# Altium schematic symbol library Arturo_Approved.SchLib: 108 symbols
Pins are listed as number, name and electrical type; pins without a type are passive.

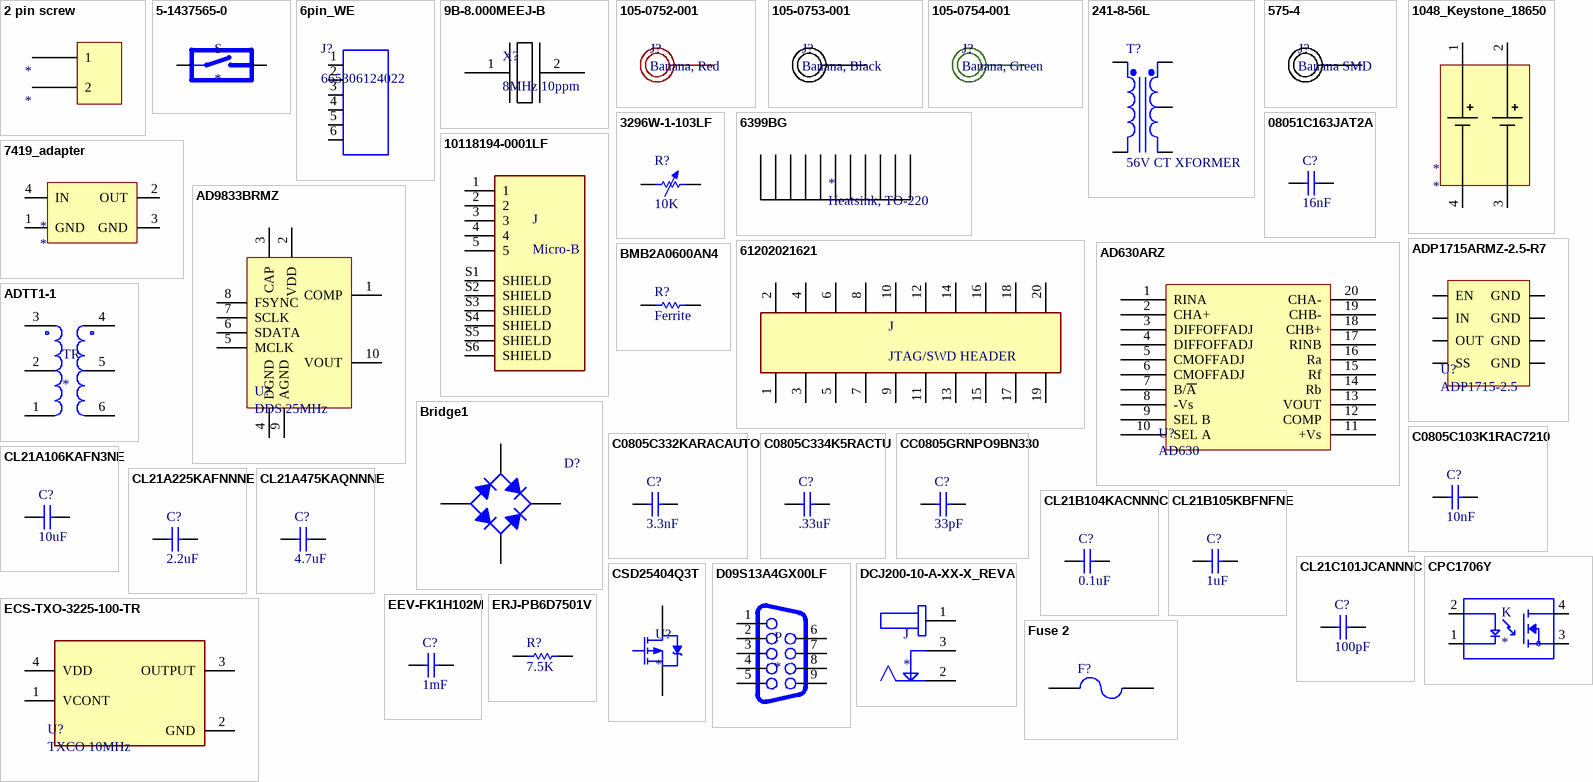
[diagram p0: symbols 2 pin screw to Fuse 2]

## 2 pin screw
designator *
footprint CUI_TB003-500-P02BE
pins: 1, 2

## 5-1437565-0
designator S
Switch Push Button N.O. SPST Round Button 0.05A 12VDC 1VA Alternate Contact Gull Wing SMD T/R; MP: FSM6JSMATR; MF: TE Connectivity; SnapEDA_Link: https://www.snapeda.com/parts/FSM6JSMATR/TE%20Connectivity%20ALCOSWITCH%20Switches/view-part/518064/?ref=snap; Price: None; TE_purchase_URL: https://www.te.com/usa-en/product-5-1437565-0.html?te_bu=Cor&te_type=disp&te_campaign=seda_glo_cor-seda-global-disp-prtnr-fy19-seda-model-bom-cta_sma-317_1&elqCampaignId=32493; Value: *; Availability: Unavailable; Package: None
footprint SW_5-1437565-0
pins: 1 2, 2, 3 1, 4 1

## 6pin_WE
designator J?, comment 665306124022
Connector Header Surface Mount 6 position 0.039 (1.00mm); MF: WÃ¼rth Elektronik; Check_prices: https://www.snapeda.com/parts/665306124022/W%C3%BCrth%20Elektronik/view-part/1276936/?ref=eda; Price: None; Value: *; Availability: Warning; Package: None; Purchase-URL: https://pricing.snapeda.com/search/part/665306124022/?ref=eda; MP: 665306124022; SnapEDA_Link: https://www.snapeda.com/parts/665306124022/W%C3%BCrth%20Elektronik/view-part/1276936/?ref=snap
footprint 665306124022
pins: 1, 2, 3, 4, 5, 6

## 9B-8.000MEEJ-B
designator X?, comment 8MHz 10ppm
pins: 1, 2

## 105-0752-001
designator J?, comment Banana, Red
Red Banana Plug; MFGPN: 105-0752-001
footprint 105-0752-001 (BANANA CONN RED)
pins: 1 0

## 105-0753-001
designator J?, comment Banana, Black
Black Banana Plug; MFGPN: 105-0753-001
footprint 105-0753-001 (BANANA CONN BLACK)
pins: 1 0

## 105-0754-001
designator J?, comment Banana, Green
Green Banana Plug; MFGPN: 105-0754-001
footprint 105-0754-001 (BANANA CONN GREEN)
pins: 1 0

## 241-8-56L
designator T?, comment 56V CT XFORMER
Center-Tapped Transformer (Coupled Inductor Model); Published: 8-Jun-2000; LatestRevisionDate: 17-Jul-2002; LatestRevisionNote: Re-released for DXP Platform.; PackageReference: TRF_5; Publisher: Altium Limited; PackageDescription: Transformer; 5 Leads
footprint TRF_5 (Transformer; 5 Leads)
simulation model TRANSFORMER (Transformer)
pins: 1 Pri+, 2 Pri-, 3 Sec+, 4 SecCT, 5 Sec-

## 575-4
designator J?, comment Banana SMD
Banana Plug SMD; MFGPN: 575-4
footprint 575-4
pins: 1 0

## 1048_Keystone_18650
designator *
pins: 1, 2, 3, 4

## 3296W-1-103LF
designator R?, comment 10K
Variable Resistor; MFGPN: 3296W-1-103LF
footprint TRIMRES
pins: 1, 2

## 6399BG
designator *, comment Heatsink, TO-220
Heavy duty heatsink; MFGPN: 6399BG

## 7419_adapter
designator *
footprint 7149_adapter
pins: 1 GND, 2 OUT, 3 GND, 4 IN

## 08051C163JAT2A
designator C?, comment 16nF
Capacitor, 16nF, 0805, 25V; MFGPN: 08051C163JAT2A; Value: 16nF
footprint STD_0805_C
pins: 1, 2

## 10118194-0001LF
designator J, comment Micro-B
USB - micro B USB 2.0 Receptacle Connector 5 Position Surface Mount, Right Angle; Through Hole; MFGPN: 10118194-0001LF
footprint 10118194-0001LF
pins: 1, 2, 3, 4, 5, S1 SHIELD, S2 SHIELD, S3 SHIELD, S4 SHIELD, S5 SHIELD, S6 SHIELD

## 61202021621
designator J, comment JTAG/SWD HEADER
Connector Header Through Hole 20 position 0.100 _2.54mm_; MF: Wurth Electronics; MP: 61202021621; Package: None; Price: None; SnapEDA_Link: https://www.snapeda.com/parts/61202021621/Wurth%20Electronics%20Inc./view-part/1356763/?ref=snap; Availability: Unavailable; Value: *
footprint 61202021621
pins: 1, 2, 3, 4, 5, 6, 7, 8, 9, 10, 11, 12, 13, 14, 15, 16, 17, 18, 19, 20

## AD630ARZ
designator U?, comment AD630
RF MOD/DEMOD
footprint SOIC_20
pins: 1 RINA, 2 CHA+, 3 DIFFOFFADJ, 4 DIFFOFFADJ, 5 CMOFFADJ, 6 CMOFFADJ, 7 B/~{A}, 8 -Vs, 9 SEL B, 10 SEL A, 11 +Vs, 12 COMP, 13 VOUT, 14 Rb, 15 Rf, 16 Ra, 17 RINB, 18 CHB+, 19 CHB-, 20 CHA-

## AD9833BRMZ
designator U?, comment DDS 25MHz
25MHz 10bit DDS; MFGPN: AD9833BRMZ
footprint MSOP_10
pins: 1 COMP, 2 VDD, 3 CAP, 4 DGND, 5 MCLK, 6 SDATA, 7 SCLK, 8 FSYNC, 9 AGND, 10 VOUT

## ADP1715ARMZ-2.5-R7
designator U?, comment ADP1715-2.5
2.5V linear regulator; MFGPN: ADP1715ARMZ-2.5-R7
footprint MSOP_8
pins: 1 EN, 2 IN, 3 OUT, 4 SS, 5 GND, 6 GND, 7 GND, 8 GND

## ADTT1-1
designator TR
Xfmr, Isolation, 50 ohm, 1: 1, 0.3-300 MHz, SMT; MP: ADTT1-1+; MF: Mini-Circuits; Package: None; Availability: Unavailable; SnapEDA_Link: https://www.snapeda.com/parts/ADTT1-1%2B/Mini-Circuits/view-part/923578/?ref=snap; Price: None; Value: *
footprint ADTT
pins: 1 PRI-, 2 PRI0, 3 PRI+, 4 SEC+, 5 SEC0, 6 SEC-

## BMB2A0600AN4
designator R?, comment Ferrite
Ferrite 0805; MFGPN: BMB2A0600AN4
footprint STD_0805_R
pins: 1, 2

## Bridge1
designator D?
Full Wave Diode Bridge; Published: 8-Jun-2000; LatestRevisionDate: 29-May-2009; LatestRevisionNote: Sch pins A & K swapped.; DatasheetVersion: E2732B; PackageReference: D-38; Publisher: Altium Limited; PackageDescription: Bridge Rectifier; 4 Terminals; Body 9.4 x 9.4 mm (typ); Pitch 5.08 mm
footprint D-38 (Bridge Rectifier; 4 Terminals; Body 9.4 x 9.4 mm (typ); Pitch 5.08 mm)
simulation model BRIDGE (Spice Subcircuit)
pins: 1 K, 2 C, 3 C, 4 A

## C0805C103K1RAC7210
designator C?, comment 10nF
Capacitor, 10nF, 0805; Value: .01uf; MFGPN: C0805C103K1RAC7210
footprint STD_0805_C
pins: 1, 2

## C0805C332KARACAUTO
designator C?, comment 3.3nF
Capacitor, 3.3nF, 0805; Value: .01uf; MFGPN: C0805C332KARACAUTO
footprint STD_0805_C
pins: 1, 2

## C0805C334K5RACTU
designator C?, comment .33uF
Capacitor, .33uF, 0805; MFGPN: C0805C334K5RACTU; Value: .33uF
footprint STD_0805_C
pins: 1, 2

## CC0805GRNPO9BN330
designator C?, comment 33pF
Capacitor, 33pF, 0805; Value: .01uf; MFGPN: CC0805GRNPO9BN330
footprint STD_0805_C
pins: 1, 2

## CL21A106KAFN3NE
designator C?, comment 10uF
Capacitor, 10uF, 0805; Value: .01uf; MFGPN: CL21A106KAFN3NE
footprint STD_0805_C
pins: 1, 2

## CL21A225KAFNNNE
designator C?, comment 2.2uF
Capacitor, 2.2uF, 0805; Value: .01uf; MFGPN: CL21A225KAFNNNE
footprint STD_0805_C
pins: 1, 2

## CL21A475KAQNNNE
designator C?, comment 4.7uF
Capacitor, 4.7uF, 0805; Value: .01uf; MFGPN: CL21A475KAQNNNE
footprint STD_0805_C
pins: 1, 2

## CL21B104KACNNNC
designator C?, comment 0.1uF
Capacitor, 0.1uF, 0805; Value: .01uf; MFGPN: CL21B104KACNNNC
footprint STD_0805_C
pins: 1, 2

## CL21B105KBFNFNE
designator C?, comment 1uF
Capacitor, 1uF, 0805; Value: .01uf; MFGPN: CL21B105KBFNFNE
footprint STD_0805_C
pins: 1, 2

## CL21C101JCANNNC
designator C?, comment 100pF
Capacitor, 100pF, 0805; Value: .01uf; MFGPN: CL21C101JCANNNC
footprint STD_0805_C
pins: 1, 2

## CPC1706Y
designator K
Solid State SPST-NO _1 Form A_ 8-SIP, 4 Leads; MP: CPC1706Y; MF: IXYS Integrated; Value: *; Package: SIP-4 IXYS; SnapEDA_Link: https://www.snapeda.com/parts/CPC1706Y/IXYS%20Integrated%20Circuits%20Division/view-part/681572/?ref=snap; Price: None; Availability: Unavailable
footprint RELAY_CPC1706Y
pins: 1, 2, 3, 4

## CSD25404Q3T
designator U?
-20V, P ch NexFET MOSFET, single SON 3x3, 6.5mOhm 8-VSON-CLIP -55 to 150; MF: Texas Instruments; MP: CSD25404Q3T; Purchase-URL: https://pricing.snapeda.com/search/part/CSD25404Q3T/?ref=eda; Package: VSON-CLIP-8 Texas Instruments; Value: *; Check_prices: https://www.snapeda.com/parts/CSD25404Q3T/Texas%20Instruments/view-part/808596/?ref=eda; SnapEDA_Link: https://www.snapeda.com/parts/CSD25404Q3T/Texas%20Instruments/view-part/808596/?ref=snap; Availability: Warning; Price: None
footprint TRANS_CSD17308Q3
pins: 1 D, 3 S

## D09S13A4GX00LF
designator P
9 Position D-Sub Receptacle, Female Sockets Connector; MP: D09S13A4GX00LF; MF: Amphenol ICC; Package: None; Price: None; Availability: Unavailable; Value: *; SnapEDA_Link: https://www.snapeda.com/parts/D09S13A4GX00LF/Amphenol%20FCI/view-part/488908/?ref=snap
footprint DB9 Right Angle
pins: 1, 2, 3, 4, 5, 6, 7, 8, 9

## DCJ200-10-A-XX-X_REVA
designator J
Power Barrel Connector Jack 2.05mm ID _0.081_, 5.50mm OD _0.217_ Through Hole, Right Angle; MP: DCJ200-10-A-K1-K; MF: Global Connector Technology; Package: None; Availability: Unavailable; Value: *; SnapEDA_Link: https://www.snapeda.com/parts/DCJ200-10-A-K1-K/Global%20Connector%20Technology/view-part/641259/?ref=snap; Price: None
footprint GCT_DCJ200-10-A-XX-X_REVA
pins: 1, 2, 3

## ECS-TXO-3225-100-TR
designator U?, comment TXCO 10MHz
10 Mhz osc; MFGPN: ECS-TXO-3225-100-TR
footprint OSC_ECS-TXO-3225-100-TR
pins: 1 VCONT, 2 GND (power), 3 OUTPUT, 4 VDD

## EEV-FK1H102M
designator C?, comment 1mF
Capacitor, 1mF 50V; Value: .01uf; MFGPN: CL21C101JCANNNC
footprint EEVFK1V152M
pins: 1, 2

## ERJ-PB6D7501V
designator R?, comment 7.5K
7.5K 1% 1/4W; Value: 1K; MFGPN: ERJ-PB6D7501V
footprint STD_0805_R
pins: 1, 2

## Fuse 2
designator F?
Fuse; Published: 8-Jun-2000; LatestRevisionDate: 17-Jul-2002; LatestRevisionNote: Re-released for DXP Platform.; PackageReference: PIN-W2/E2.8; Publisher: Altium Limited; PackageDescription: Thru-Hole; 2 Leads
footprint PIN-W2/E2.8 (Thru-Hole; 2 Leads)
simulation model FUSE (Spice Subcircuit)
pins: 1, 2

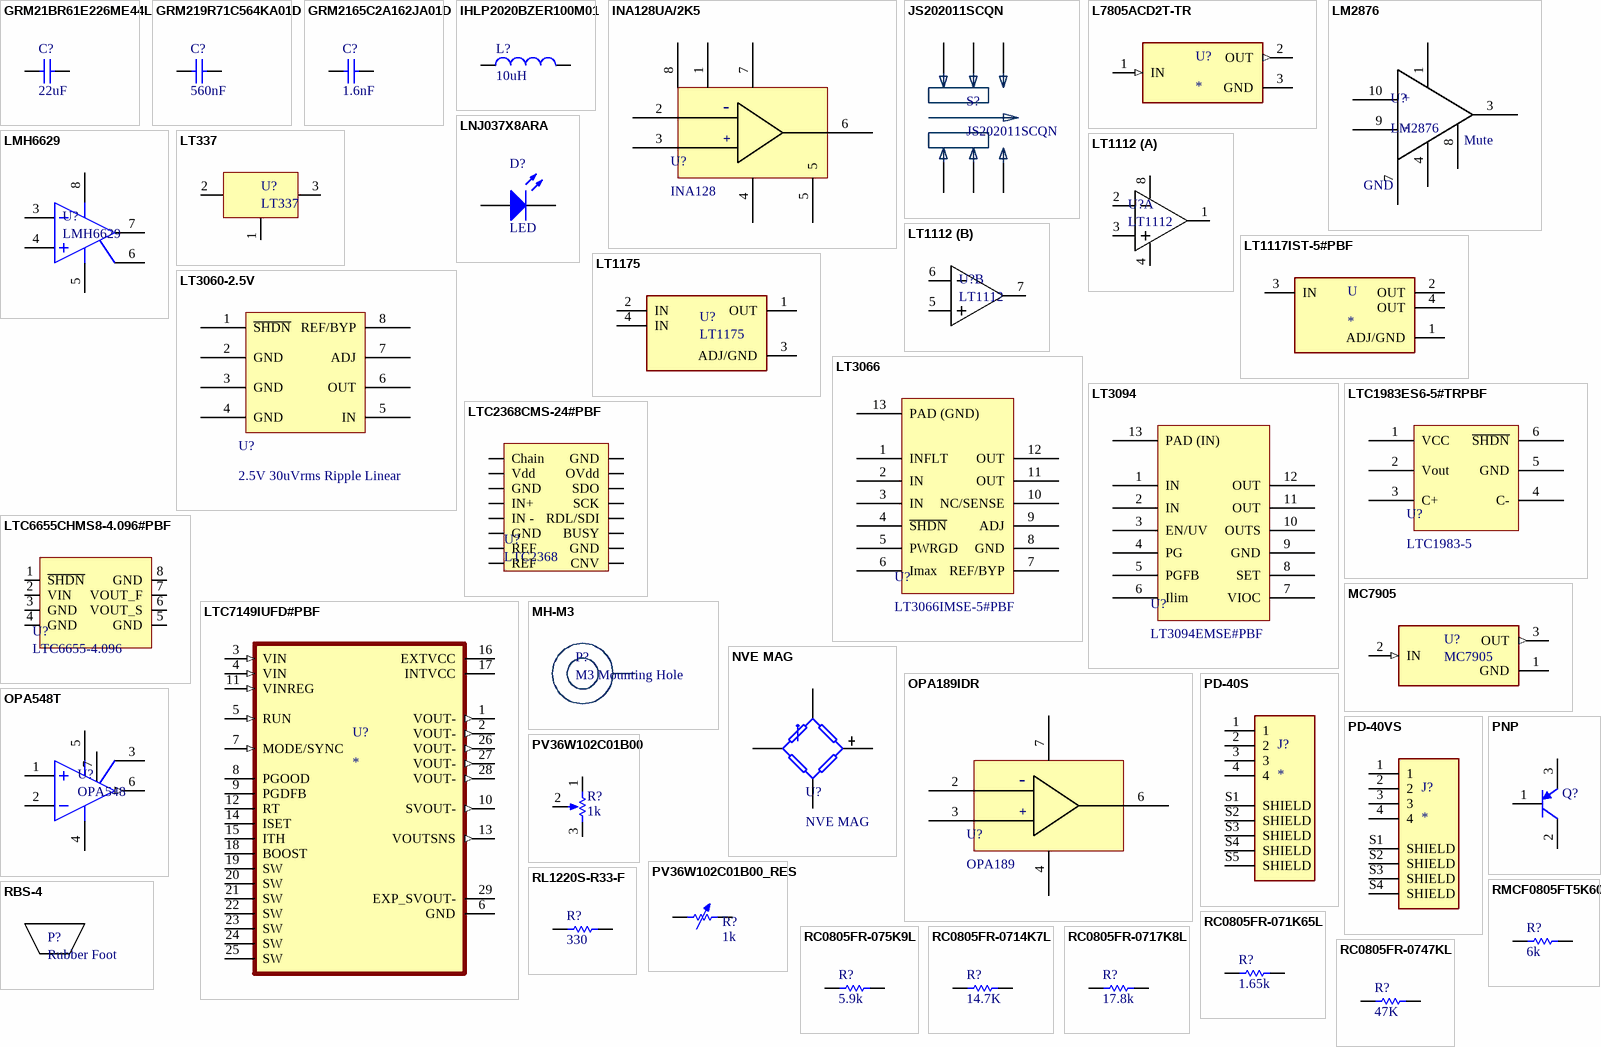
[diagram p1: symbols GRM21BR61E226ME44L to RMCF0805FT5K60]

## GRM21BR61E226ME44L
designator C?, comment 22uF
Capacitor, 22uF, 0805, 25V; Value: .01uf; MFGPN: GRM21BR61E226ME44L
footprint STD_0805_C
pins: 1, 2

## GRM219R71C564KA01D
designator C?, comment 560nF
Capacitor, 560nF, 0805, 25V; MFGPN: GRM219R71C564KA01D; Value: 560nF
footprint STD_0805_C
pins: 1, 2

## GRM2165C2A162JA01D
designator C?, comment 1.6nF
Capacitor, 1.6nF, 0805, 25V; MFGPN: GRM2165C2A162JA01D; Value: 1.6nF
footprint STD_0805_C
pins: 1, 2

## IHLP2020BZER100M01
designator L?, comment 10uH
Inductor 10uH VISHAY; MFGPN: IHLP2020BZER100M01
footprint IHLP2020BZER100M01
pins: 1, 2

## INA128UA/2K5
designator U?, comment INA128
Instrumentation Amp, Generic; MFGPN: INA128UA/2K5
footprint SOIC_8
pins: 1 Gain, 2, 3, 4, 5, 6, 7, 8 Gain
text: -; +

## JS202011SCQN
designator S?
Slide Switch DPDT Surface Mount; MF: C&K; MFGPN: JS202011SCQN; Value: *; Package: None; SnapEDA_Link: https://www.snapeda.com/parts/JS202011SCQN/C%26K/view-part/592122/?ref=snap; Digi-Key_Part_Number: 401-2002-1-ND; Digi-Key_Purchase_URL: https://www.digikey.com/product-detail/en/c-k/JS202011SCQN/401-2002-1-ND/1640098?utm_source=snapeda&utm_medium=aggregator&utm_campaign=symbol
footprint SW_JS202011SCQN
pins: 1, 2, 3, 4, 5, 6

## L7805ACD2T-TR
designator U?
Linear Voltage Regulator IC 1 Output 1.5A D2PAK; MP: L7805ACD2T-TR; MF: STMicroelectronics; Price: None; Purchase-URL: https://pricing.snapeda.com/search/part/L7805ACD2T-TR/?ref=eda; Package: D2PAK STMicroelectronics; Check_prices: https://www.snapeda.com/parts/L7805ACD2T-TR/STMicroelectronics/view-part/104395/?ref=eda; SnapEDA_Link: https://www.snapeda.com/parts/L7805ACD2T-TR/STMicroelectronics/view-part/104395/?ref=snap; Value: *; Availability: Good
footprint TO254P1515X470-3N
pins: 1 IN (in), 2 OUT (out), 3 GND (power)

## LM2876
designator U?
pins: 1 GND, 3 GND, 4 GND, 7 GND, 8 GND, 9 GND, 10 GND
text: +; -; Mute

## LMH6629
designator U?
footprint LMH6629
simulation model LMH6629 (Model Description)
pins: 3 IN-, 4 IN+, 5 V- (power), 6 TAB, 7 OUT, 8 V+ (power)

## LNJ037X8ARA
designator D?, comment LED
Typical LED; MFGPN: LNJ037X8ARA
footprint STD_LED
pins: 1, 2

## LT337
designator U?
pins: 1, 2, 3

## LT1112
designator U?
part A pins: 1, 2, 3, 4, 8
part B pins: 5, 6, 7

## LT1117IST-5#PBF
designator U
LDO Regulator Pos 5V 0.8A Automotive 4-Pin_3+Tab_ SOT-223 Tube; MP: LT1117IST-5#PBF; MF: Analog Devices; Value: *; Availability: Unavailable; Price: None; Package: SOT-223-3 Analog Devices; SnapEDA_Link: https://www.snapeda.com/parts/LT1117IST-5%23PBF/Analog%20Devices/view-part/4348177/?ref=snap
footprint REG_LT1117IST-5#PBF
pins: 1 ADJ/GND (power), 2 OUT, 3 IN, 4 OUT

## LT1175
designator U?
footprint REG_LT1117IST-5#PBF
pins: 1 OUT, 2 IN, 3 ADJ/GND (power), 4 IN

## LT3060-2.5V
designator U?, comment 2.5V 30uVrms Ripple Linear
Low nloise linear regulator
pins: 1 ~{SHDN}, 2 GND, 3 GND, 4 GND, 5 IN, 6 OUT, 7 ADJ, 8 REF/BYP

## LT3066
designator U?, comment LT3066IMSE-5#PBF
5V VIN, 500mA Low Noise, / Linear Regulator with Programmable / Current Limit; MFGPN: LT3066IMSE-5#PBF
pins: 1 INFLT, 2 IN, 3 IN, 4 ~{SHDN}, 5 PWRGD, 6 Imax, 7 REF/BYP, 8 GND, 9 ADJ, 10 NC/SENSE, 11 OUT, 12 OUT, 13 PAD (GND)

## LT3094
designator U?, comment LT3094EMSE#PBF
Linear Regulator; MFGPN: LT3094EMSE#PBF
pins: 1 IN, 2 IN, 3 EN/UV, 4 PG, 5 PGFB, 6 Ilim, 7 VIOC, 8 SET, 9 GND, 10 OUTS, 11 OUT, 12 OUT, 13 PAD (IN)

## LTC1983ES6-5#TRPBF
designator U?, comment LTC1983-5
-5V, DC-DC Converter; MFGPN: LTC1983ES6-5#TRPBF
footprint SOT23-6_M (SOT23, 6-Leads, Body 2.9x1.6mm, Pitch 0.95mm, Lead Span 2.7mm, IPC Low Density)
pins: 1 VCC, 2 Vout, 3 C+, 4 C-, 5 GND, 6 ~{SHDN}

## LTC2368CMS-24#PBF
designator U?, comment LTC2368
24 Bit ADC 1Msps; MFGPN: LTC2368CMS-24#PBF
footprint MSOP_16
pins: 1 Chain, 2 Vdd, 3 GND, 4 IN+, 5 IN -, 6 GND, 7 REF, 8 REF, 9 CNV, 10 GND, 11 BUSY, 12 RDL/SDI, 13 SCK, 14 SDO, 15 OVdd, 16 GND

## LTC6655CHMS8-4.096#PBF
designator U?, comment LTC6655-4.096
Voltage Reference 4.096V; MFGPN: LTC6655CHMS8-4.096#PBF
footprint MSOP_8
pins: 1 ~{SHDN}, 2 VIN, 3 GND, 4 GND, 5 GND, 6 VOUT_S, 7 VOUT_F, 8 GND

## LTC7149IUFD#PBF
designator U?
MP: LTC7149IUFD#PBF; Package: None; Price: None; Value: *; Availability: Unavailable
footprint QFN50P500X400X80-2 (Footprint not found)
footprint QFN50P500X400X80-29N
pins: 1 VOUT- (out), 2 VOUT- (out), 3 VIN (in), 4 VIN (in), 5 RUN (in), 6 GND (power), 7 MODE/SYNC (in), 8 PGOOD, 9 PGDFB, 10 SVOUT- (out), 11 VINREG (in), 12 RT, 13 VOUTSNS (out), 14 ISET, 15 ITH, 16 EXTVCC (power), 17 INTVCC (power), 18 BOOST, 19 SW, 20 SW, 21 SW, 22 SW, 23 SW, 24 SW, 25 SW, 26 VOUT- (out), 27 VOUT- (out), 28 VOUT- (out), 29 EXP_SVOUT- (power)

## MC7905
designator U?
footprint TO254P1515X470-3N
pins: 1 GND (power), 2 IN (in), 3 OUT (out)

## MH-M3
designator P?, comment M3 Mounting Hole
footprint MH-M3
pins: 1

## NVE MAG
designator U?
footprint SOIC_8
pins: 1, 4, 5, 8

## OPA189IDR
designator U?, comment OPA189
Precision OpAmp, Generic; MFGPN: OPA189IDR
footprint SOIC_8
pins: 2, 3, 4, 6, 7
text: -; +

## OPA548T
designator U?, comment OPA548
High power op amp; MFGPN: OPA548T
footprint TO-220-7
pins: 1 IN-, 2 IN+, 3 TAB, 4 V- (power), 5 V+ (power), 6 OUT (out), 7 OS NUL

## PD-40S
designator J?
MP: PD-40S; Package: None; Value: *; Price: None; Availability: Unavailable
footprint CUI_PD-40S
pins: 1, 2, 3, 4, S1 SHIELD, S2 SHIELD, S3 SHIELD, S4 SHIELD, S5 SHIELD

## PD-40VS
designator J?
4 Position , 7.5 A, Vertical, Through Hole, Shielded, Power DIN Connector; MP: PD-40VS; MF: {'manufacturer': u'CUI'}; Package: None; Price: None; Availability: Unavailable; Value: *
footprint CUI_PD-40VS
pins: 1, 2, 3, 4, S1 SHIELD, S2 SHIELD, S3 SHIELD, S4 SHIELD

## PNP
designator Q?
PNP General Purpose Amplifier; Published: 8-Jun-2000; LatestRevisionDate: 15-Jan-2003; LatestRevisionNote: PCB Footprint 'BCY-W3/D4.7' replaced; DatasheetVersion: 1997; PackageVersion: Sep-1998; PackageReference: TO-92A; Publisher: Altium Limited; PackageDescription: TO, Flat Index; 3 In-Line, Axial Leads; Body Dia. 4.5mm; Leads 0.51 x 0.48 mm (max); ComponentLink1Description: Manufacturer Link; ComponentLink1URL: http://www.fairchildsemi.com/; ComponentLink2Description: Datasheet; ComponentLink2URL: http://www.fairchildsemi.com/ds/2N%2F2N3906.pdf
footprint TO-220-3
pins: 1 B, 2 C, 3 E

## PV36W102C01B00
designator R?, comment 1k
Potentiometer, 1k; MFGPN: PV36W102C01B00
footprint TRIMPOT
pins: 1 TOP, 2 TAP, 3 BOT
1 alternate drawing of the same symbol

## PV36W102C01B00_RES
designator R?, comment 1k
Variable resistor 1k; MFGPN: PV36W102C01B00
footprint TRIMRES
pins: 1, 2
1 alternate drawing of the same symbol

## RBS-4
designator P?, comment Rubber Foot
MFGPN: RBS-4

## RC0805FR-071K65L
designator R?, comment 1.65k
MFGPN: RC0805FR-071K65L; Value: 1.65k
footprint STD_0805_R
pins: 1, 2

## RC0805FR-075K9L
designator R?, comment 5.9k
MFGPN: RC0805FR-075K9L; Value: 5.9k
footprint STD_0805_R
pins: 1, 2

## RC0805FR-0714K7L
designator R?, comment 14.7K
14.7K 1% 1/4W; Value: 1K; MFGPN: RC0805FR-0714K7L
footprint STD_0805_R
pins: 1, 2

## RC0805FR-0717K8L
designator R?, comment 17.8k
MFGPN: RC0805FR-0717K8L; Value: 17.8k
footprint STD_0805_R
pins: 1, 2

## RC0805FR-0747KL
designator R?, comment 47K
47K 1% 1/8W; Value: 1K; MFGPN: RC0805FR-0747KL
footprint STD_0805_R
pins: 1, 2

## RL1220S-R33-F
designator R?, comment 330
330 1% 1/3W; Value: 1K; MFGPN: RL1220S-R33-F
footprint STD_0805_R
pins: 1, 2

## RMCF0805FT5K60
designator R?, comment 6k
6K 1% 1/4W; MFGPN: RMCF0805FT5K60; Value: 6k
footprint STD_0805_R
pins: 1, 2

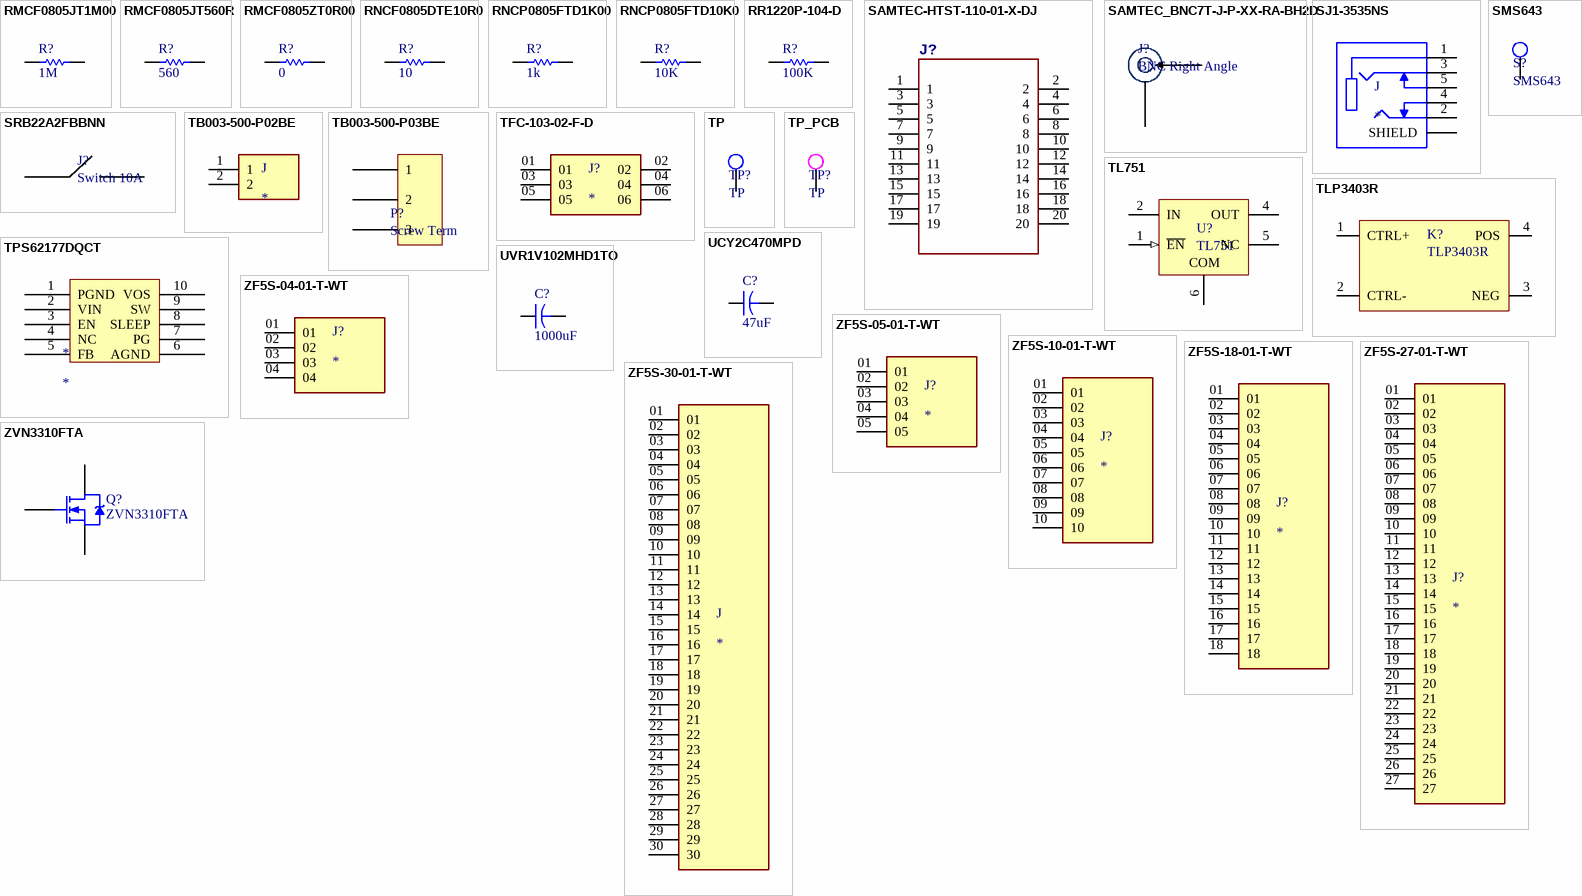
[diagram p2: symbols RMCF0805JT1M00 to ZVN3310FTA]

## RMCF0805JT1M00
designator R?, comment 1M
MFGPN: RMCF0805JT1M00; Value: 1M
footprint STD_0805_R
pins: 1, 2

## RMCF0805JT560R
designator R?, comment 560
MFGPN: RMCF0805JT560R; Value: 560
footprint STD_0805_R
pins: 1, 2

## RMCF0805ZT0R00
designator R?, comment 0
0 ohm jumper; MFGPN: RMCF0805ZT0R00; Value: 0
footprint STD_0805_R
pins: 1, 2

## RNCF0805DTE10R0
designator R?, comment 10
10 ohm 0805; MFGPN: RNCF0805DTE10R0; Value: 10
footprint STD_0805_R
pins: 1, 2

## RNCP0805FTD1K00
designator R?, comment 1k
1K 1% 1/4W; MFGPN: RNCP0805FTD1K00; Value: 1K
footprint STD_0805_R
pins: 1, 2

## RNCP0805FTD10K0
designator R?, comment 10K
10K 1% 1/4W; Value: 1K; MFGPN: RNCP0805FTD10K0
footprint STD_0805_R
pins: 1, 2

## RR1220P-104-D
designator R?, comment 100K
100K 1% 1/10W; Value: 1K; MFGPN: RR1220P-104-D
footprint STD_0805_R
pins: 1, 2

## SAMTEC-HTST-110-01-X-DJ
designator J?
GateName_1: A; SymbolName_1: SAMTEC-HTST-110-01-X-DA; DeviceName: J; DeviceSetName: SAMTEC-HTST-110-01-X-D; LibraryName: SAMTEC-HTST-110-01-X-D; Package: SAMTEC-HTST-110-01-X-D
footprint SAMTEC-HTST-110-01-X-D
pins: 1, 2, 3, 4, 5, 6, 7, 8, 9, 10, 11, 12, 13, 14, 15, 16, 17, 18, 19, 20

## SAMTEC_BNC7T-J-P-XX-RA-BH2D
designator J?, comment BNC Right Angle
Right Angle BNC; MFGPN: SAMTEC_BNC7T-J-P-XX-RA-BH2D
footprint SAMTEC_BNC7T-J-P-XX-RA-BH2D
pins: 1, 2

## SJ1-3535NS
designator J
3.5 mm Stereo Jack, 5 Pin Right-Angle, PCB Mount, Full Shield, Metal Bushing; MP: SJ1-3535NS; MF: CUI Devices; Price: None; SnapEDA_Link: https://www.snapeda.com/parts/SJ1-3535NS/CUI%20Devices/view-part/525428/?ref=snap; Availability: Unavailable; Value: *; Package: None
footprint CUI_SJ1-3535NS
pins: 1, 2, 3, 4, 5, S1 SHIELD, S2 SHIELD, S3 SHIELD

## SMS643
designator S?
footprint SMS-463F
pins: 1

## SRB22A2FBBNN
designator J?, comment Switch 10A
MFGPN: SRB22A2FBBNN
footprint SRB22A2FBBNN
pins: 1, 2

## TB003-500-P02BE
designator J
2~24 Poles, Screw Type, Horizontal, 5.0 Pitch, 26~14 _AWG_, Terminal Block Connector; MP: TB003-500-P02BE; MF: CUI Devices; Availability: Unavailable; Package: None; SnapEDA_Link: https://www.snapeda.com/parts/TB003-500-P02BE/CUI%20Devices/view-part/3590637/?ref=snap; Price: None; Value: *
footprint CUI_TB003-500-P02BE
pins: 1, 2

## TB003-500-P03BE
designator P?, comment Screw Term
3 Pin screw terminal; MFGPN: TB003-500-P03BE
footprint TB003-500-P03BE
pins: 1, 2, 3

## TFC-103-02-F-D
designator J?
MF: Samtec; MP: TFC-103-02-F-D; Value: *; Availability: Unavailable; Price: None; Package: None
footprint SAMTEC_TFC-103-02-F-D
pins: 01, 02, 03, 04, 05, 06

## TL751
designator U?
MFGPN: TL751
footprint TL751 (DPAK, 5-Leads, Body 6.22x6.7mm, Pitch 1.14mm, IPC Low Density)
pins: 1 ~{EN} (in), 2 IN (power), 4 OUT (power), 5 NC, 6 COM (power)

## TLP3403R
designator K?
pins: 1 CTRL+, 2 CTRL-, 3 NEG, 4 POS

## TP
designator TP?
Test Point
footprint 5017 (KEYSTONE TP GOLD)
pins: 1

## TP_PCB
designator TP?, comment TP
Test Point
footprint Test_point (TP PCB)
pins: 1

## TPS62177DQCT
designator *
footprint TPS62177
pins: 1 PGND, 2 VIN, 3 EN, 4 NC, 5 FB, 6 AGND, 7 PG, 8 SLEEP, 9 SW, 10 VOS

## UCY2C470MPD
designator C?, comment 47uF
Capacitor, 47uF NICHICON; MFGPN: UCY2C470MPD
footprint UCY2C470MPD
pins: 1, 2

## UVR1V102MHD1TO
designator C?, comment 1000uF
Capacitor, 100uF NICHICON; MFGPN: UVR1V102MHD1TO
footprint UVR1V102MHD1TO
pins: 1, 2

## ZF5S-04-01-T-WT
designator J?
MP: ZF5S-04-01-T-WT; Price: None; Availability: Unavailable; Value: *; Package: None
footprint SAMTEC_ZF5S-04-01-T-WT
pins: 01, 02, 03, 04

## ZF5S-05-01-T-WT
designator J?
MP: ZF5S-05-01-T-WT; Value: *; Package: None; Price: None; Availability: Unavailable
footprint SAMTEC_ZF5S-05-01-T-WT
pins: 01, 02, 03, 04, 05

## ZF5S-10-01-T-WT
designator J?
MP: ZF5S-10-01-T-WT; Value: *; Price: None; Availability: Unavailable; Package: None
footprint SAMTEC_ZF5S-10-01-T-WT
pins: 01, 02, 03, 04, 05, 06, 07, 08, 09, 10

## ZF5S-18-01-T-WT
designator J?
MP: ZF5S-18-01-T-WT; Value: *; Package: None; Price: None; Availability: Unavailable
footprint SAMTEC_ZF5S-18-01-T-WT
pins: 01, 02, 03, 04, 05, 06, 07, 08, 09, 10, 11, 12, 13, 14, 15, 16, 17, 18

## ZF5S-27-01-T-WT
designator J?
MP: ZF5S-27-01-T-WT; Package: None; Price: None; Value: *; Availability: Unavailable
footprint SAMTEC_ZF5S-27-01-T-WT
pins: 01, 02, 03, 04, 05, 06, 07, 08, 09, 10, 11, 12, 13, 14, 15, 16, 17, 18, 19, 20, 21, 22, 23, 24, 25, 26, 27

## ZF5S-30-01-T-WT
designator J
ZERO INSERTION FORCE .5MM ASSEMB; MF: Samtec Inc.; MP: ZF5S-30-01-T-WT-TR; Availability: Unavailable; Toby_UK-Purchase-URL: https://snapeda.com/shop?store=Toby+UK&id=4799814; SnapEDA_Link: https://www.snapeda.com/parts/ZF5S-30-01-T-WT-TR/Samtec/view-part/4799814/?ref=snap; Value: *; Price: None; Package: None
footprint SAMTEC_ZF5S-30-01-T-WT
pins: 01, 02, 03, 04, 05, 06, 07, 08, 09, 10, 11, 12, 13, 14, 15, 16, 17, 18, 19, 20, 21, 22, 23, 24, 25, 26, 27, 28, 29, 30

## ZVN3310FTA
designator Q?
N-Channel Power MOSFET; ComponentLink1Description: Manufacturer Link; ComponentLink1URL: http://www.irf.com/; MFGPN: ZVN3310FTA
footprint SOT-23B_M (SOT23, 3-Leads, Body 2.9x1.3mm, Pitch 0.95mm, Lead Span 2.4mm, IPC Low Density)
pins: 1 G, 2 D, 3 S